# EAGLE library part SI7997DP (library AR_transistor)
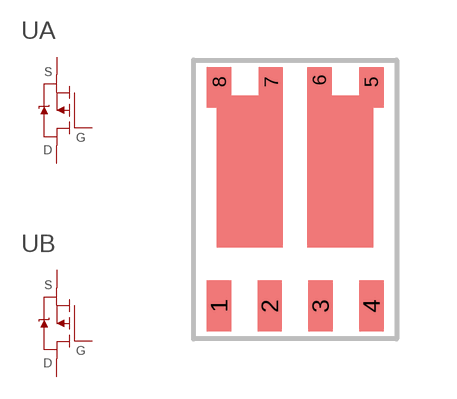
[diagram p2: symbol with the pads of POWERPAK-SO-8-DUAL; footprint POWERPAK-SO-8-DUAL]

Designator prefix -; gates B=P-CHANNEL-MOSFET A=P-CHANNEL-MOSFET

## SI7997DP  [POWERPAK-SO-8-DUAL]
1  B:S
2  B:G
3  A:S
4  A:G
5  A:D
6  A:D
7  B:D
8  B:D

## Footprint POWERPAK-SO-8-DUAL (pad centres in mm)
smd 0.61 x 1.27: 1 -1.905,-2.725; 2 -0.635,-2.725; 3 0.635,-2.725; 4 1.905,-2.725
smd 0.5 x 0.5: 5 1.9,2.88; 6 0.6,2.93; 7 -0.6,2.88; 8 -1.9,2.88